# EAGLE library part MBED_MICRO (library useful_library)
Key Features: Up to 120MHz Operation Nested Vectored Interrupt Controller for Fast Deterministic Interrupts Wakeup Interrupt Controller Allows Automatic Wake from Any Priority Interrupt Memory Protection Unit Four Reduced Power Modes: Sleep, Deep-Sleep, Power-Down, and Deep Power-Down The LPC17xx series of low-power, cost-effective Cortex-M3 microcontrollers feature advanced peripherals such as an LCD controller, Ethernet, USB 2.0 Host/OTG/Device, and CAN 2.0B. Operating at speeds up to 120MHz, they have up to 512KB of flash memory, up to 96KB of SRAM, 12-bit A/D and 10-bit D/A converters as well as an internal RC oscillator.
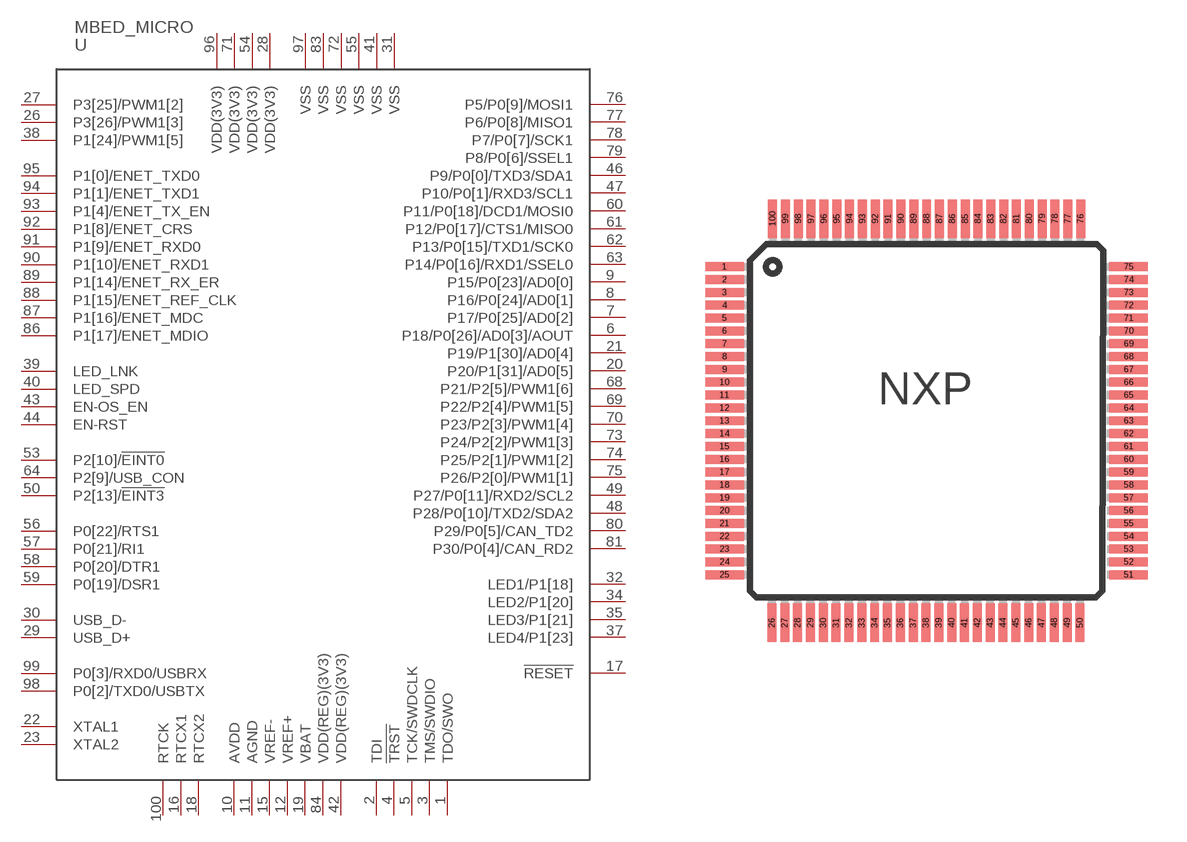
[diagram p0: symbol with the pads of LQFP100; footprint LQFP100]

Designator prefix -

## MBED_MICRO  [LQFP100]
1  TDO/SWO
2  TDI
3  TMS/SWDIO
4  !TRST!
5  TCK/SWDCLK
6  P18/P0[26]/AD0[3]/AOUT
7  P17/P0[25]/AD0[2]
8  P16/P0[24]/AD0[1]
9  P15/P0[23]/AD0[0]
10  AVDD  pwr
11  AGND  pwr
12  VREF+  pwr
13  NC  nc
14  !RSTOUT!  nc
15  VREF-  pwr
16  RTCX1
17  !RESET!
18  RTCX2
19  VBAT  pwr
20  P20/P1[31]/AD0[5]
21  P19/P1[30]/AD0[4]
22  XTAL1
23  XTAL2
24  P0[28]/SCL0/USB_SCL  nc
25  P0[27]/SDA0/USB_SDA  nc
26  P3[26]/PWM1[3]
27  P3[25]/PWM1[2]
28  VDD(3V3)  pwr
29  USB_D+
30  USB_D-
31  VSS  pwr
32  LED1/P1[18]
33  P1[19]/MCOA0/!USB_PPWR!/CAP1[1]  nc
34  LED2/P1[20]
35  LED3/P1[21]
36  P1[22]/MCOB0/USB_PWRD/MAT1[0]  nc
37  LED4/P1[23]
38  P1[24]/PWM1[5]
39  LED_LNK
40  LED_SPD
41  VSS  pwr
42  VDD(REG)(3V3)  pwr
43  EN-OS_EN
44  EN-RST
45  P1[29]/MCOB2/PCAP1[1]/MAT0[1]  nc
46  P9/P0[0]/TXD3/SDA1
47  P10/P0[1]/RXD3/SCL1
48  P28/P0[10]/TXD2/SDA2
49  P27/P0[11]/RXD2/SCL2
50  P2[13]/!EINT3!
51  P2[12]/!EINT2!/I2STX_WS  nc
52  P2[11]/!EINT1!/I2STX_CL  nc
53  P2[10]/!EINT0!
54  VDD(3V3)  pwr
55  VSS  pwr
56  P0[22]/RTS1
57  P0[21]/RI1
58  P0[20]/DTR1
59  P0[19]/DSR1
60  P11/P0[18]/DCD1/MOSI0
61  P12/P0[17]/CTS1/MISO0
62  P13/P0[15]/TXD1/SCK0
63  P14/P0[16]/RXD1/SSEL0
64  P2[9]/USB_CON
65  P2[8]/TD2/TXD2  nc
66  P2[7]/RD2/RTS1  nc
67  P2[6]/PCAP1[0]/RI1/TRACECLK  nc
68  P21/P2[5]/PWM1[6]
69  P22/P2[4]/PWM1[5]
70  P23/P2[3]/PWM1[4]
71  VDD(3V3)  pwr
72  VSS  pwr
73  P24/P2[2]/PWM1[3]
74  P25/P2[1]/PWM1[2]
75  P26/P2[0]/PWM1[1]
76  P5/P0[9]/MOSI1
77  P6/P0[8]/MISO1
78  P7/P0[7]/SCK1
79  P8/P0[6]/SSEL1
80  P29/P0[5]/CAN_TD2
81  P30/P0[4]/CAN_RD2
82  P4[28]/RX_MCLK/MAT2[0]/TXD3  nc
83  VSS  pwr
84  VDD(REG)(3V3)  pwr
85  P4[29]/TX_MCLK/MAT2[1]/RXD3  nc
86  P1[17]/ENET_MDIO
87  P1[16]/ENET_MDC
88  P1[15]/ENET_REF_CLK
89  P1[14]/ENET_RX_ER
90  P1[10]/ENET_RXD1
91  P1[9]/ENET_RXD0
92  P1[8]/ENET_CRS
93  P1[4]/ENET_TX_EN
94  P1[1]/ENET_TXD1
95  P1[0]/ENET_TXD0
96  VDD(3V3)  pwr
97  VSS  pwr
98  P0[2]/TXD0/USBTX
99  P0[3]/RXD0/USBRX
100  RTCK

## Footprint LQFP100 (pad centres in mm)
LQFP 100 Source: 6120s.pdf
smd 1.5 x 0.35: 1 -7.875,6; 2 -7.875,5.5; 3 -7.875,5; 4 -7.875,4.5; 5 -7.875,4; 6 -7.875,3.5; 7 -7.875,3; 8 -7.875,2.5; 9 -7.875,2; 10 -7.875,1.5; 11 -7.875,1; 12 -7.875,0.5; 13 -7.875,0; 14 -7.875,-0.5; 15 -7.875,-1; 16 -7.875,-1.5; 17 -7.875,-2; 18 -7.875,-2.5; 19 -7.875,-3; 20 -7.875,-3.5; 21 -7.875,-4; 22 -7.875,-4.5; 23 -7.875,-5; 24 -7.875,-5.5; 25 -7.875,-6; 51 7.875,-6; 52 7.875,-5.5; 53 7.875,-5; 54 7.875,-4.5; 55 7.875,-4; 56 7.875,-3.5; 57 7.875,-3; 58 7.875,-2.5; 59 7.875,-2; 60 7.875,-1.5; 61 7.875,-1; 62 7.875,-0.5; 63 7.875,0; 64 7.875,0.5; 65 7.875,1; 66 7.875,1.5; 67 7.875,2; 68 7.875,2.5; 69 7.875,3; 70 7.875,3.5; 71 7.875,4; 72 7.875,4.5; 73 7.875,5; 74 7.875,5.5; 75 7.875,6
smd 0.35 x 1.5: 26 -6.025,-7.875; 27 -5.525,-7.875; 28 -5.025,-7.875; 29 -4.525,-7.875; 30 -4.025,-7.875; 31 -3.525,-7.875; 32 -3.025,-7.875; 33 -2.525,-7.875; 34 -2.025,-7.875; 35 -1.525,-7.875; 36 -1.025,-7.875; 37 -0.525,-7.875; 38 -0.025,-7.875; 39 0.475,-7.875; 40 0.975,-7.875; 41 1.475,-7.875; 42 1.975,-7.875; 43 2.475,-7.875; 44 2.975,-7.875; 45 3.475,-7.875; 46 3.975,-7.875; 47 4.475,-7.875; 48 4.975,-7.875; 49 5.475,-7.875; 50 5.975,-7.875; 76 6,7.875; 77 5.5,7.875; 78 5,7.875; 79 4.5,7.875; 80 4,7.875; 81 3.5,7.875; 82 3,7.875; 83 2.5,7.875; 84 2,7.875; 85 1.5,7.875; 86 1,7.875; 87 0.5,7.875; 88 0,7.875; 89 -0.5,7.875; 90 -1,7.875; 91 -1.5,7.875; 92 -2,7.875; 93 -2.5,7.875; 94 -3,7.875; 95 -3.5,7.875; 96 -4,7.875; 97 -4.5,7.875; 98 -5,7.875; 99 -5.5,7.875; 100 -6,7.875